# Altium integrated library Linear Technology PMIC-Switching Reg LT1074-LT8705.IntLib: 2252 symbols (part 77 of 124)
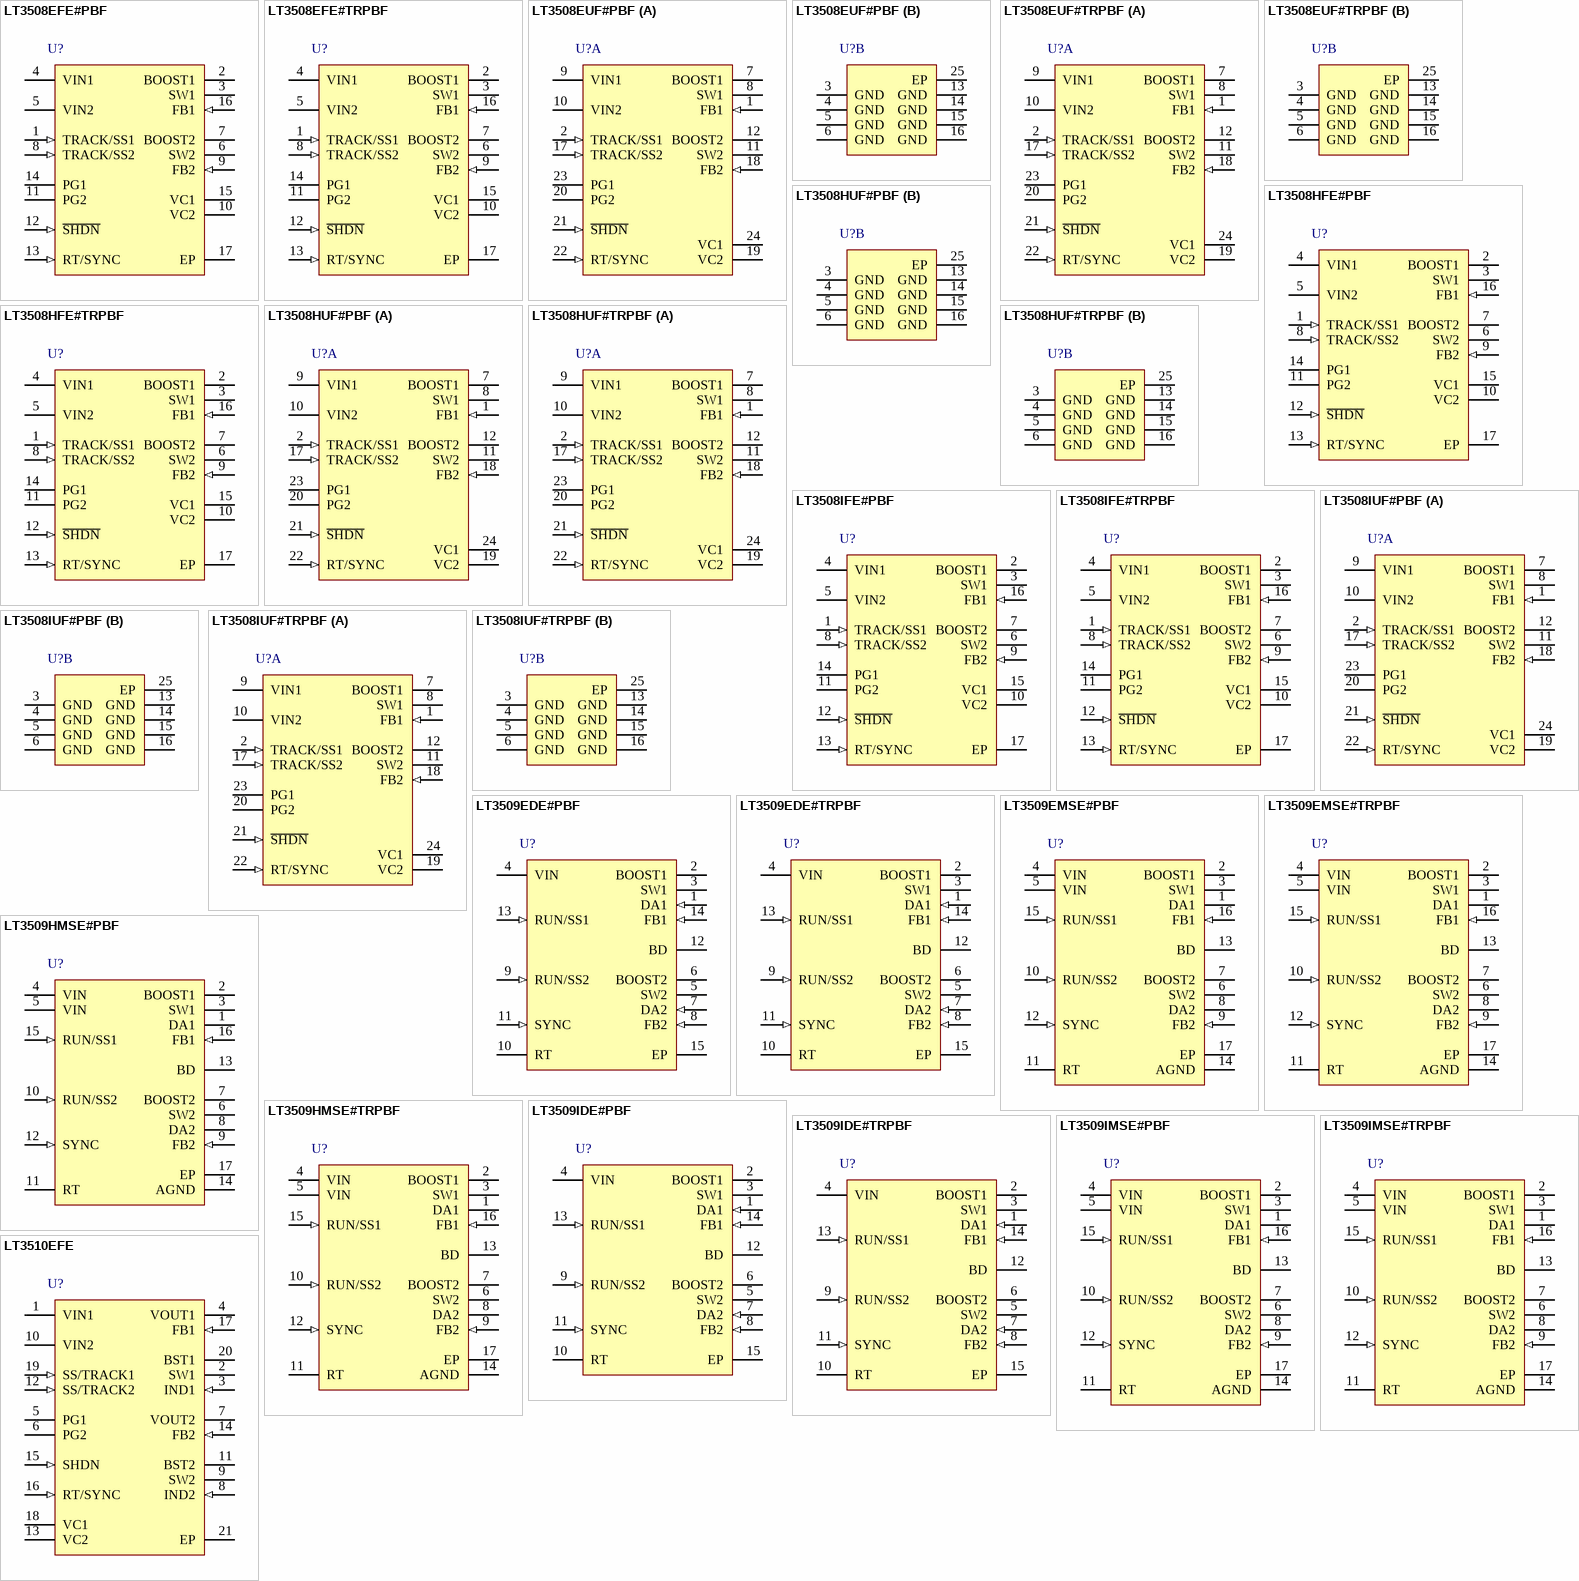
[diagram p147: symbols LT3508EFE#PBF to LT3510EFE]

## LT3508IUF#TRPBF
designator U?
Dual Monolithic 1.4 A Step-Down Switching Regulator, 24-pin QFN (UF24), -40 to 125 degC, Pb-Free, Tape and Reel; Manufacturer: Linear Technology; PartNumber: LT3508IUF#TRPBF; Number of Outputs: 2; PackageReference: UF24; PackageDescription: 24-Pin Plastic QFN, Body 4 x 4 mm, Pitch 0.5 mm; Supplier 1: Digi-Key; Supplier Part Number 1: LT3508IUF#TRPBF-ND; RoHS: TRUE
footprint LT-UF-24_N (QFN, 24-Leads, Body 4.1x4.1mm, Pitch 0.5mm, Thermal Pad 2.45x2.45mm, IPC Medium Density)
footprint LT-UF-24_L (QFN, 24-Leads, Body 4.1x4.1mm, Pitch 0.5mm, Thermal Pad 2.45x2.45mm, IPC High Density)
footprint LT-UF-24_M (QFN, 24-Leads, Body 4.1x4.1mm, Pitch 0.5mm, Thermal Pad 2.45x2.45mm, IPC Low Density)
part A pins: 1 FB1 (in) "The LT3508 regulates each feedback pin to 0.800V. Connect the feedback resistor divider taps to these pins.", 2 TRACK/SS1 (in) "The TRACK/SS pins are used to soft-start the two channels, to allow one channel to track the other output, or to allow both channels to track another output. For tracking, tie a resistor divider to this pin from the tracked (See Datasheet)", 7 BOOST1 "The BOOST pins are used to provide drive voltages, higher than the input voltage, to the internal NPN power switches. Tie through a diode to a 2.8V or higher supply, such as VOUT or VIN.", 8 SW1 (power) "The SW pins are the outputs of the internal power switches. Connect these pins to the inductors, catch diodes and boost capacitors.", 9 VIN1 (power) "The VIN1 pin supplies current to the LT3508 internal circuitry and to the internal power switch connected to SW1 and must be locally bypassed. VIN1 must be greater than 3.7V for channel 1 or channel 2 to operate. If VIN1 is (See Datasheet)", 10 VIN2 (power) "The VIN2 pin supplies current to the internal power switch connected to SW2 and must be locally bypassed. Connect this pin directly to VIN1 unless power for channel 2 is coming from a different source. VIN2 must be greater (See Datasheet)", 11 SW2 (power) "The SW pins are the outputs of the internal power switches. Connect these pins to the inductors, catch diodes and boost capacitors.", 12 BOOST2 "The BOOST pins are used to provide drive voltages, higher than the input voltage, to the internal NPN power switches. Tie through a diode to a 2.8V or higher supply, such as VOUT or VIN.", 17 TRACK/SS2 (in) "The TRACK/SS pins are used to soft-start the two channels, to allow one channel to track the other output, or to allow both channels to track another output. For tracking, tie a resistor divider to this pin from the tracked (See Datasheet)", 18 FB2 (in) "The LT3508 regulates each feedback pin to 0.800V. Connect the feedback resistor divider taps to these pins.", 19 VC2 "The VC pins are the outputs of the internal error amps. The voltages on these pins control the peak switch currents. These pins are normally used to compensate the control loops, but can also be used to override the loops. (See Datasheet)", 20 PG2 (oc) "The power good pins are the open-collector outputs of an internal comparator. PG remains low until the FB pin is within 10% of the final regulation voltage. As well as indicating output regulation, the PG pins can be used to (See Datasheet)", 21 ~{SHDN} (in) "The shutdown pin is used to put the LT3508 in shutdown mode. Pull the pin below 0.3V to shut down the LT3508. The 2.63V threshold can function as an accurate undervoltage lockout (UVLO), preventing the regulator from (See Datasheet)", 22 RT/SYNC (in) "The RT/SYNC pin is used to set the internal oscillator frequency. Tie a 33.2k resistor from RT/SYNC to GND for a 1MHz switching frequency. To synchronize the part to an external frequency, drive the RT/SYNC pin with a (See Datasheet)", 23 PG1 (oc) "The power good pins are the open-collector outputs of an internal comparator. PG remains low until the FB pin is within 10% of the final regulation voltage. As well as indicating output regulation, the PG pins can be used to (See Datasheet)", 24 VC1 "The VC pins are the outputs of the internal error amps. The voltages on these pins control the peak switch currents. These pins are normally used to compensate the control loops, but can also be used to override the loops. (See Datasheet)"
part B pins: 3 GND (power) "Tie the GND pins directly to the Exposed Pad and ground plane.", 4 GND (power) "Tie the GND pins directly to the Exposed Pad and ground plane.", 5 GND (power) "Tie the GND pins directly to the Exposed Pad and ground plane.", 6 GND (power) "Tie the GND pins directly to the Exposed Pad and ground plane.", 13 GND (power) "Tie the GND pins directly to the Exposed Pad and ground plane.", 14 GND (power) "Tie the GND pins directly to the Exposed Pad and ground plane.", 15 GND (power) "Tie the GND pins directly to the Exposed Pad and ground plane.", 16 GND (power) "Tie the GND pins directly to the Exposed Pad and ground plane.", 25 EP (power) "The exposed pad metal of the package provides both electrical contact to ground and good thermal contact to the printed circuit board. The exposed pad must be soldered to the circuit board for proper operation."

## LT3509EDE#PBF
designator U?
Dual 36 V, 700 mA Step-Down Regulator, 14-pin SON (DE-14), -40 to 125 degC, Pb-Free; Manufacturer: Linear Technology; PartNumber: LT3509EDE#PBF; Number of Outputs: 2; PackageReference: DE-14; PackageDescription: 14-Pin Plastic DFN, Body 4 x 3 mm, Pitch 0.5 mm; Supplier 1: Digi-Key; Supplier Part Number 1: LT3509EDE#PBF-ND; RoHS: TRUE
footprint LT-DE-14_V (SON, 14-Leads, Body 4x3mm, Pitch 0.5mm, Thermal Pad 3.3x1.7mm)
pins: 1 DA1 (in) "The DA pins are the anode connections for the catch diodes. These are connected internally to the exposed ground pad by current sensing resistors.", 2 BOOST1 "The BOOST pins are used to dynamically boost the power transistor base above VIN to minimize the voltage drop and power loss in the switch. These should be tied to the associated switch pins through the boost capacitors", 3 SW1 (power) "The SW pins are the internal power switch outputs. These should be connected to the associated inductors, catch diode cathodes, and the boost capacitors.", 4 VIN (power) "The VIN pins supply power to the internal power switches and control circuitry. In the MSE package the VIN pins must be tied together. The input capacitor should be placed as close as possible to the supply pins.", 5 SW2 (power) "The SW pins are the internal power switch outputs. These should be connected to the associated inductors, catch diode cathodes, and the boost capacitors.", 6 BOOST2 "The BOOST pins are used to dynamically boost the power transistor base above VIN to minimize the voltage drop and power loss in the switch. These should be tied to the associated switch pins through the boost capacitors", 7 DA2 (in) "The DA pins are the anode connections for the catch diodes. These are connected internally to the exposed ground pad by current sensing resistors.", 8 FB2 (in) "The FB pins are used to set the regulated output voltage relative to the internal reference. These pins should be connected to a resistor divider from the regulated output such that the FB pin is at 0.8V when the output is (See Datasheet)", 9 RUN/SS2 (in) "The RUN/SS pins enable the associated regulator channel. If both pins are pulled to ground, the device will shut-down to a low power state. In the range 0.8V to 2V, the regulators are enabled but the peak switch current and (See Datasheet)", 10 RT "The RT pin is used to set the internal oscillator frequency. A 40.2k resistor from RT to ground results in a nominal frequency of 1MHz.", 11 SYNC (in) "The SYNC pin allows the switching frequency to be synchronized to a external clock. Choose RT resistor to set a free-run frequency at least 12% less than the external clock frequency for correct operation", 12 BD (power) "The BD pin is common anode connection of the internal Schottky boost diodes. This provides the power for charging the BOOST capacitors. It should be locally bypassed for best performance.", 13 RUN/SS1 (in) "The RUN/SS pins enable the associated regulator channel. If both pins are pulled to ground, the device will shut-down to a low power state. In the range 0.8V to 2V, the regulators are enabled but the peak switch current and (See Datasheet)", 14 FB1 (in) "The FB pins are used to set the regulated output voltage relative to the internal reference. These pins should be connected to a resistor divider from the regulated output such that the FB pin is at 0.8V when the output is (See Datasheet)", 15 EP (power) "GND. This is the reference and supply ground for the regulator. The exposed pad must be soldered to the PCB and electrically connected to supply ground. Use a large ground plane and thermal vias to optimize thermal (See Datasheet)"

## LT3509EDE#TRPBF
designator U?
Dual 36 V, 700 mA Step-Down Regulator, 14-pin SON (DE-14), -40 to 125 degC, Pb-Free, Tape and Reel; Manufacturer: Linear Technology; PartNumber: LT3509EDE#TRPBF; Number of Outputs: 2; PackageReference: DE-14; PackageDescription: 14-Pin Plastic DFN, Body 4 x 3 mm, Pitch 0.5 mm; Supplier 1: Digi-Key; Supplier Part Number 1: LT3509EDE#TRPBF-ND; RoHS: TRUE
footprint LT-DE-14_V (SON, 14-Leads, Body 4x3mm, Pitch 0.5mm, Thermal Pad 3.3x1.7mm)
pins: 1 DA1 (in) "The DA pins are the anode connections for the catch diodes. These are connected internally to the exposed ground pad by current sensing resistors.", 2 BOOST1 "The BOOST pins are used to dynamically boost the power transistor base above VIN to minimize the voltage drop and power loss in the switch. These should be tied to the associated switch pins through the boost capacitors", 3 SW1 (power) "The SW pins are the internal power switch outputs. These should be connected to the associated inductors, catch diode cathodes, and the boost capacitors.", 4 VIN (power) "The VIN pins supply power to the internal power switches and control circuitry. In the MSE package the VIN pins must be tied together. The input capacitor should be placed as close as possible to the supply pins.", 5 SW2 (power) "The SW pins are the internal power switch outputs. These should be connected to the associated inductors, catch diode cathodes, and the boost capacitors.", 6 BOOST2 "The BOOST pins are used to dynamically boost the power transistor base above VIN to minimize the voltage drop and power loss in the switch. These should be tied to the associated switch pins through the boost capacitors", 7 DA2 (in) "The DA pins are the anode connections for the catch diodes. These are connected internally to the exposed ground pad by current sensing resistors.", 8 FB2 (in) "The FB pins are used to set the regulated output voltage relative to the internal reference. These pins should be connected to a resistor divider from the regulated output such that the FB pin is at 0.8V when the output is (See Datasheet)", 9 RUN/SS2 (in) "The RUN/SS pins enable the associated regulator channel. If both pins are pulled to ground, the device will shut-down to a low power state. In the range 0.8V to 2V, the regulators are enabled but the peak switch current and (See Datasheet)", 10 RT "The RT pin is used to set the internal oscillator frequency. A 40.2k resistor from RT to ground results in a nominal frequency of 1MHz.", 11 SYNC (in) "The SYNC pin allows the switching frequency to be synchronized to a external clock. Choose RT resistor to set a free-run frequency at least 12% less than the external clock frequency for correct operation", 12 BD (power) "The BD pin is common anode connection of the internal Schottky boost diodes. This provides the power for charging the BOOST capacitors. It should be locally bypassed for best performance.", 13 RUN/SS1 (in) "The RUN/SS pins enable the associated regulator channel. If both pins are pulled to ground, the device will shut-down to a low power state. In the range 0.8V to 2V, the regulators are enabled but the peak switch current and (See Datasheet)", 14 FB1 (in) "The FB pins are used to set the regulated output voltage relative to the internal reference. These pins should be connected to a resistor divider from the regulated output such that the FB pin is at 0.8V when the output is (See Datasheet)", 15 EP (power) "GND. This is the reference and supply ground for the regulator. The exposed pad must be soldered to the PCB and electrically connected to supply ground. Use a large ground plane and thermal vias to optimize thermal (See Datasheet)"

## LT3509EMSE#PBF
designator U?
Dual 36 V, 700 mA Step-Down Regulator, 16-pin SOP (MSE-16-EDP), -40 to 125 degC, Pb-Free; Manufacturer: Linear Technology; PartNumber: LT3509EMSE#PBF; Number of Outputs: 2; PackageReference: MSE-16; PackageDescription: 16-Pin Plastic MSOP, Exposed Die Pad, Body 4.039 x 3 mm, Pitch 0.5 mm; Supplier 1: Digi-Key; Supplier Part Number 1: LT3509EMSE#PBF-ND; RoHS: TRUE
footprint LT-MSE-16-EDP_N (SOP, 16-Leads, Body 4.1x3.1mm, Pitch 0.5mm, Thermal Pad 2.95x1.76mm, IPC Medium Density)
footprint LT-MSE-16-EDP_L (SOP, 16-Leads, Body 4.1x3.1mm, Pitch 0.5mm, Thermal Pad 2.95x1.76mm, IPC High Density)
footprint LT-MSE-16-EDP_M (SOP, 16-Leads, Body 4.1x3.1mm, Pitch 0.5mm, Thermal Pad 2.95x1.76mm, IPC Low Density)
pins: 1 DA1 "The DA pins are the anode connections for the catch diodes. These are connected internally to the exposed ground pad by current sensing resistors.", 2 BOOST1 "The BOOST pins are used to dynamically boost the power transistor base above VIN to minimize the voltage drop and power loss in the switch. These should be tied to the associated switch pins through the boost capacitors.", 3 SW1 (power) "The SW pins are the internal power switch outputs. These should be connected to the associated inductors, catch diode cathodes, and the boost capacitors.", 4 VIN (power) "The VIN pins supply power to the internal power switches and control circuitry. In the MSE package the VIN pins must be tied together. The input capacitor should be placed as close as possible to the supply pins.", 5 VIN (power) "The VIN pins supply power to the internal power switches and control circuitry. In the MSE package the VIN pins must be tied together. The input capacitor should be placed as close as possible to the supply pins.", 6 SW2 (power) "The SW pins are the internal power switch outputs. These should be connected to the associated inductors, catch diode cathodes, and the boost capacitors.", 7 BOOST2 "The BOOST pins are used to dynamically boost the power transistor base above VIN to minimize the voltage drop and power loss in the switch. These should be tied to the associated switch pins through the boost capacitors.", 8 DA2 "The DA pins are the anode connections for the catch diodes. These are connected internally to the exposed ground pad by current sensing resistors.", 9 FB2 (in) "The FB pins are used to set the regulated output voltage relative to the internal reference. These pins should be connected to a resistor divider from the regulated output such that the FB pin is at 0.8V when the output is (See Datasheet)", 10 RUN/SS2 (in) "The RUN/SS pins enable the associated regulator channel. If both pins are pulled to ground, the device will shut-down to a low power state. In the range 0.8V to 2V, the regulators are enabled but the peak switch current and (See Datasheet)", 11 RT "The RT pin is used to set the internal oscillator frequency. A 40.2k resistor from RT to ground results in a nominal frequency of 1MHz.", 12 SYNC (in) "The SYNC pin allows the switching frequency to be synchronized to a external clock. Choose RT resistor to set a free-run frequency at least 12% less than the external clock frequency for correct operation.", 13 BD (power) "The BD pin is common anode connection of the internal Schottky boost diodes. This provides the power for charging the BOOST capacitors. It should be locally bypassed for best performance.", 14 AGND (power) "This is the connected to the ground connection of the chip and may be used as a separate return for the low current control side components. It should not be used as the only ground connection or as a connection return for (See Datasheet)", 15 RUN/SS1 (in) "The RUN/SS pins enable the associated regulator channel. If both pins are pulled to ground, the device will shut-down to a low power state. In the range 0.8V to 2V, the regulators are enabled but the peak switch current and (See Datasheet)", 16 FB1 (in) "The FB pins are used to set the regulated output voltage relative to the internal reference. These pins should be connected to a resistor divider from the regulated output such that the FB pin is at 0.8V when the output is (See Datasheet)", 17 EP (power) "GND. This is the reference and supply ground for the regulator. The exposed pad must be soldered to the PCB and electrically connected to supply ground. Use a large ground plane and thermal vias to optimize thermal (See Datasheet)"

## LT3509EMSE#TRPBF
designator U?
Dual 36 V, 700 mA Step-Down Regulator, 16-pin SOP (MSE-16-EDP), -40 to 125 degC, Pb-Free, Tape and Reel; Manufacturer: Linear Technology; PartNumber: LT3509EMSE#TRPBF; Number of Outputs: 2; PackageReference: MSE-16; PackageDescription: 16-Pin Plastic MSOP, Exposed Die Pad, Body 4.039 x 3 mm, Pitch 0.5 mm; Supplier 1: Digi-Key; Supplier Part Number 1: LT3509EMSE#TRPBF-ND; RoHS: TRUE
footprint LT-MSE-16-EDP_N (SOP, 16-Leads, Body 4.1x3.1mm, Pitch 0.5mm, Thermal Pad 2.95x1.76mm, IPC Medium Density)
footprint LT-MSE-16-EDP_L (SOP, 16-Leads, Body 4.1x3.1mm, Pitch 0.5mm, Thermal Pad 2.95x1.76mm, IPC High Density)
footprint LT-MSE-16-EDP_M (SOP, 16-Leads, Body 4.1x3.1mm, Pitch 0.5mm, Thermal Pad 2.95x1.76mm, IPC Low Density)
pins: 1 DA1 "The DA pins are the anode connections for the catch diodes. These are connected internally to the exposed ground pad by current sensing resistors.", 2 BOOST1 "The BOOST pins are used to dynamically boost the power transistor base above VIN to minimize the voltage drop and power loss in the switch. These should be tied to the associated switch pins through the boost capacitors.", 3 SW1 (power) "The SW pins are the internal power switch outputs. These should be connected to the associated inductors, catch diode cathodes, and the boost capacitors.", 4 VIN (power) "The VIN pins supply power to the internal power switches and control circuitry. In the MSE package the VIN pins must be tied together. The input capacitor should be placed as close as possible to the supply pins.", 5 VIN (power) "The VIN pins supply power to the internal power switches and control circuitry. In the MSE package the VIN pins must be tied together. The input capacitor should be placed as close as possible to the supply pins.", 6 SW2 (power) "The SW pins are the internal power switch outputs. These should be connected to the associated inductors, catch diode cathodes, and the boost capacitors.", 7 BOOST2 "The BOOST pins are used to dynamically boost the power transistor base above VIN to minimize the voltage drop and power loss in the switch. These should be tied to the associated switch pins through the boost capacitors.", 8 DA2 "The DA pins are the anode connections for the catch diodes. These are connected internally to the exposed ground pad by current sensing resistors.", 9 FB2 (in) "The FB pins are used to set the regulated output voltage relative to the internal reference. These pins should be connected to a resistor divider from the regulated output such that the FB pin is at 0.8V when the output is (See Datasheet)", 10 RUN/SS2 (in) "The RUN/SS pins enable the associated regulator channel. If both pins are pulled to ground, the device will shut-down to a low power state. In the range 0.8V to 2V, the regulators are enabled but the peak switch current and (See Datasheet)", 11 RT "The RT pin is used to set the internal oscillator frequency. A 40.2k resistor from RT to ground results in a nominal frequency of 1MHz.", 12 SYNC (in) "The SYNC pin allows the switching frequency to be synchronized to a external clock. Choose RT resistor to set a free-run frequency at least 12% less than the external clock frequency for correct operation.", 13 BD (power) "The BD pin is common anode connection of the internal Schottky boost diodes. This provides the power for charging the BOOST capacitors. It should be locally bypassed for best performance.", 14 AGND (power) "This is the connected to the ground connection of the chip and may be used as a separate return for the low current control side components. It should not be used as the only ground connection or as a connection return for (See Datasheet)", 15 RUN/SS1 (in) "The RUN/SS pins enable the associated regulator channel. If both pins are pulled to ground, the device will shut-down to a low power state. In the range 0.8V to 2V, the regulators are enabled but the peak switch current and (See Datasheet)", 16 FB1 (in) "The FB pins are used to set the regulated output voltage relative to the internal reference. These pins should be connected to a resistor divider from the regulated output such that the FB pin is at 0.8V when the output is (See Datasheet)", 17 EP (power) "GND. This is the reference and supply ground for the regulator. The exposed pad must be soldered to the PCB and electrically connected to supply ground. Use a large ground plane and thermal vias to optimize thermal (See Datasheet)"

## LT3509HMSE#PBF
designator U?
Dual 36 V, 700 mA Step-Down Regulator, 16-pin SOP (MSE-16-EDP), -40 to 150 degC, Pb-Free; Manufacturer: Linear Technology; PartNumber: LT3509HMSE#PBF; Number of Outputs: 2; PackageReference: MSE-16; PackageDescription: 16-Pin Plastic MSOP, Exposed Die Pad, Body 4.039 x 3 mm, Pitch 0.5 mm; Supplier 1: Digi-Key; Supplier Part Number 1: LT3509HMSE#PBF-ND; RoHS: TRUE
footprint LT-MSE-16-EDP_N (SOP, 16-Leads, Body 4.1x3.1mm, Pitch 0.5mm, Thermal Pad 2.95x1.76mm, IPC Medium Density)
footprint LT-MSE-16-EDP_L (SOP, 16-Leads, Body 4.1x3.1mm, Pitch 0.5mm, Thermal Pad 2.95x1.76mm, IPC High Density)
footprint LT-MSE-16-EDP_M (SOP, 16-Leads, Body 4.1x3.1mm, Pitch 0.5mm, Thermal Pad 2.95x1.76mm, IPC Low Density)
pins: 1 DA1 "The DA pins are the anode connections for the catch diodes. These are connected internally to the exposed ground pad by current sensing resistors.", 2 BOOST1 "The BOOST pins are used to dynamically boost the power transistor base above VIN to minimize the voltage drop and power loss in the switch. These should be tied to the associated switch pins through the boost capacitors.", 3 SW1 (power) "The SW pins are the internal power switch outputs. These should be connected to the associated inductors, catch diode cathodes, and the boost capacitors.", 4 VIN (power) "The VIN pins supply power to the internal power switches and control circuitry. In the MSE package the VIN pins must be tied together. The input capacitor should be placed as close as possible to the supply pins.", 5 VIN (power) "The VIN pins supply power to the internal power switches and control circuitry. In the MSE package the VIN pins must be tied together. The input capacitor should be placed as close as possible to the supply pins.", 6 SW2 (power) "The SW pins are the internal power switch outputs. These should be connected to the associated inductors, catch diode cathodes, and the boost capacitors.", 7 BOOST2 "The BOOST pins are used to dynamically boost the power transistor base above VIN to minimize the voltage drop and power loss in the switch. These should be tied to the associated switch pins through the boost capacitors.", 8 DA2 "The DA pins are the anode connections for the catch diodes. These are connected internally to the exposed ground pad by current sensing resistors.", 9 FB2 (in) "The FB pins are used to set the regulated output voltage relative to the internal reference. These pins should be connected to a resistor divider from the regulated output such that the FB pin is at 0.8V when the output is (See Datasheet)", 10 RUN/SS2 (in) "The RUN/SS pins enable the associated regulator channel. If both pins are pulled to ground, the device will shut-down to a low power state. In the range 0.8V to 2V, the regulators are enabled but the peak switch current and (See Datasheet)", 11 RT "The RT pin is used to set the internal oscillator frequency. A 40.2k resistor from RT to ground results in a nominal frequency of 1MHz.", 12 SYNC (in) "The SYNC pin allows the switching frequency to be synchronized to a external clock. Choose RT resistor to set a free-run frequency at least 12% less than the external clock frequency for correct operation.", 13 BD (power) "The BD pin is common anode connection of the internal Schottky boost diodes. This provides the power for charging the BOOST capacitors. It should be locally bypassed for best performance.", 14 AGND (power) "This is the connected to the ground connection of the chip and may be used as a separate return for the low current control side components. It should not be used as the only ground connection or as a connection return for (See Datasheet)", 15 RUN/SS1 (in) "The RUN/SS pins enable the associated regulator channel. If both pins are pulled to ground, the device will shut-down to a low power state. In the range 0.8V to 2V, the regulators are enabled but the peak switch current and (See Datasheet)", 16 FB1 (in) "The FB pins are used to set the regulated output voltage relative to the internal reference. These pins should be connected to a resistor divider from the regulated output such that the FB pin is at 0.8V when the output is (See Datasheet)", 17 EP (power) "GND. This is the reference and supply ground for the regulator. The exposed pad must be soldered to the PCB and electrically connected to supply ground. Use a large ground plane and thermal vias to optimize thermal (See Datasheet)"

## LT3509HMSE#TRPBF
designator U?
Dual 36 V, 700 mA Step-Down Regulator, 16-pin SOP (MSE-16-EDP), -40 to 150 degC, Pb-Free, Tape and Reel; Manufacturer: Linear Technology; PartNumber: LT3509HMSE#TRPBF; Number of Outputs: 2; PackageReference: MSE-16; PackageDescription: 16-Pin Plastic MSOP, Exposed Die Pad, Body 4.039 x 3 mm, Pitch 0.5 mm; Supplier 1: Digi-Key; Supplier Part Number 1: LT3509HMSE#TRPBF-ND; RoHS: TRUE
footprint LT-MSE-16-EDP_N (SOP, 16-Leads, Body 4.1x3.1mm, Pitch 0.5mm, Thermal Pad 2.95x1.76mm, IPC Medium Density)
footprint LT-MSE-16-EDP_L (SOP, 16-Leads, Body 4.1x3.1mm, Pitch 0.5mm, Thermal Pad 2.95x1.76mm, IPC High Density)
footprint LT-MSE-16-EDP_M (SOP, 16-Leads, Body 4.1x3.1mm, Pitch 0.5mm, Thermal Pad 2.95x1.76mm, IPC Low Density)
pins: 1 DA1 "The DA pins are the anode connections for the catch diodes. These are connected internally to the exposed ground pad by current sensing resistors.", 2 BOOST1 "The BOOST pins are used to dynamically boost the power transistor base above VIN to minimize the voltage drop and power loss in the switch. These should be tied to the associated switch pins through the boost capacitors.", 3 SW1 (power) "The SW pins are the internal power switch outputs. These should be connected to the associated inductors, catch diode cathodes, and the boost capacitors.", 4 VIN (power) "The VIN pins supply power to the internal power switches and control circuitry. In the MSE package the VIN pins must be tied together. The input capacitor should be placed as close as possible to the supply pins.", 5 VIN (power) "The VIN pins supply power to the internal power switches and control circuitry. In the MSE package the VIN pins must be tied together. The input capacitor should be placed as close as possible to the supply pins.", 6 SW2 (power) "The SW pins are the internal power switch outputs. These should be connected to the associated inductors, catch diode cathodes, and the boost capacitors.", 7 BOOST2 "The BOOST pins are used to dynamically boost the power transistor base above VIN to minimize the voltage drop and power loss in the switch. These should be tied to the associated switch pins through the boost capacitors.", 8 DA2 "The DA pins are the anode connections for the catch diodes. These are connected internally to the exposed ground pad by current sensing resistors.", 9 FB2 (in) "The FB pins are used to set the regulated output voltage relative to the internal reference. These pins should be connected to a resistor divider from the regulated output such that the FB pin is at 0.8V when the output is (See Datasheet)", 10 RUN/SS2 (in) "The RUN/SS pins enable the associated regulator channel. If both pins are pulled to ground, the device will shut-down to a low power state. In the range 0.8V to 2V, the regulators are enabled but the peak switch current and (See Datasheet)", 11 RT "The RT pin is used to set the internal oscillator frequency. A 40.2k resistor from RT to ground results in a nominal frequency of 1MHz.", 12 SYNC (in) "The SYNC pin allows the switching frequency to be synchronized to a external clock. Choose RT resistor to set a free-run frequency at least 12% less than the external clock frequency for correct operation.", 13 BD (power) "The BD pin is common anode connection of the internal Schottky boost diodes. This provides the power for charging the BOOST capacitors. It should be locally bypassed for best performance.", 14 AGND (power) "This is the connected to the ground connection of the chip and may be used as a separate return for the low current control side components. It should not be used as the only ground connection or as a connection return for (See Datasheet)", 15 RUN/SS1 (in) "The RUN/SS pins enable the associated regulator channel. If both pins are pulled to ground, the device will shut-down to a low power state. In the range 0.8V to 2V, the regulators are enabled but the peak switch current and (See Datasheet)", 16 FB1 (in) "The FB pins are used to set the regulated output voltage relative to the internal reference. These pins should be connected to a resistor divider from the regulated output such that the FB pin is at 0.8V when the output is (See Datasheet)", 17 EP (power) "GND. This is the reference and supply ground for the regulator. The exposed pad must be soldered to the PCB and electrically connected to supply ground. Use a large ground plane and thermal vias to optimize thermal (See Datasheet)"

## LT3509IDE#PBF
designator U?
Dual 36 V, 700 mA Step-Down Regulator, 14-pin SON (DE-14), -40 to 125 degC, Pb-Free; Manufacturer: Linear Technology; PartNumber: LT3509IDE#PBF; Number of Outputs: 2; PackageReference: DE-14; PackageDescription: 14-Pin Plastic DFN, Body 4 x 3 mm, Pitch 0.5 mm; Supplier 1: Digi-Key; Supplier Part Number 1: LT3509IDE#PBF-ND; RoHS: TRUE
footprint LT-DE-14_V (SON, 14-Leads, Body 4x3mm, Pitch 0.5mm, Thermal Pad 3.3x1.7mm)
pins: 1 DA1 (in) "The DA pins are the anode connections for the catch diodes. These are connected internally to the exposed ground pad by current sensing resistors.", 2 BOOST1 "The BOOST pins are used to dynamically boost the power transistor base above VIN to minimize the voltage drop and power loss in the switch. These should be tied to the associated switch pins through the boost capacitors", 3 SW1 (power) "The SW pins are the internal power switch outputs. These should be connected to the associated inductors, catch diode cathodes, and the boost capacitors.", 4 VIN (power) "The VIN pins supply power to the internal power switches and control circuitry. In the MSE package the VIN pins must be tied together. The input capacitor should be placed as close as possible to the supply pins.", 5 SW2 (power) "The SW pins are the internal power switch outputs. These should be connected to the associated inductors, catch diode cathodes, and the boost capacitors.", 6 BOOST2 "The BOOST pins are used to dynamically boost the power transistor base above VIN to minimize the voltage drop and power loss in the switch. These should be tied to the associated switch pins through the boost capacitors", 7 DA2 (in) "The DA pins are the anode connections for the catch diodes. These are connected internally to the exposed ground pad by current sensing resistors.", 8 FB2 (in) "The FB pins are used to set the regulated output voltage relative to the internal reference. These pins should be connected to a resistor divider from the regulated output such that the FB pin is at 0.8V when the output is (See Datasheet)", 9 RUN/SS2 (in) "The RUN/SS pins enable the associated regulator channel. If both pins are pulled to ground, the device will shut-down to a low power state. In the range 0.8V to 2V, the regulators are enabled but the peak switch current and (See Datasheet)", 10 RT "The RT pin is used to set the internal oscillator frequency. A 40.2k resistor from RT to ground results in a nominal frequency of 1MHz.", 11 SYNC (in) "The SYNC pin allows the switching frequency to be synchronized to a external clock. Choose RT resistor to set a free-run frequency at least 12% less than the external clock frequency for correct operation", 12 BD (power) "The BD pin is common anode connection of the internal Schottky boost diodes. This provides the power for charging the BOOST capacitors. It should be locally bypassed for best performance.", 13 RUN/SS1 (in) "The RUN/SS pins enable the associated regulator channel. If both pins are pulled to ground, the device will shut-down to a low power state. In the range 0.8V to 2V, the regulators are enabled but the peak switch current and (See Datasheet)", 14 FB1 (in) "The FB pins are used to set the regulated output voltage relative to the internal reference. These pins should be connected to a resistor divider from the regulated output such that the FB pin is at 0.8V when the output is (See Datasheet)", 15 EP (power) "GND. This is the reference and supply ground for the regulator. The exposed pad must be soldered to the PCB and electrically connected to supply ground. Use a large ground plane and thermal vias to optimize thermal (See Datasheet)"

## LT3509IDE#TRPBF
designator U?
Dual 36 V, 700 mA Step-Down Regulator, 14-pin SON (DE-14), -40 to 125 degC, Pb-Free, Tape and Reel; Manufacturer: Linear Technology; PartNumber: LT3509IDE#TRPBF; Number of Outputs: 2; PackageReference: DE-14; PackageDescription: 14-Pin Plastic DFN, Body 4 x 3 mm, Pitch 0.5 mm; Supplier 1: Digi-Key; Supplier Part Number 1: LT3509IDE#TRPBF-ND; RoHS: TRUE
footprint LT-DE-14_V (SON, 14-Leads, Body 4x3mm, Pitch 0.5mm, Thermal Pad 3.3x1.7mm)
pins: 1 DA1 (in) "The DA pins are the anode connections for the catch diodes. These are connected internally to the exposed ground pad by current sensing resistors.", 2 BOOST1 "The BOOST pins are used to dynamically boost the power transistor base above VIN to minimize the voltage drop and power loss in the switch. These should be tied to the associated switch pins through the boost capacitors", 3 SW1 (power) "The SW pins are the internal power switch outputs. These should be connected to the associated inductors, catch diode cathodes, and the boost capacitors.", 4 VIN (power) "The VIN pins supply power to the internal power switches and control circuitry. In the MSE package the VIN pins must be tied together. The input capacitor should be placed as close as possible to the supply pins.", 5 SW2 (power) "The SW pins are the internal power switch outputs. These should be connected to the associated inductors, catch diode cathodes, and the boost capacitors.", 6 BOOST2 "The BOOST pins are used to dynamically boost the power transistor base above VIN to minimize the voltage drop and power loss in the switch. These should be tied to the associated switch pins through the boost capacitors", 7 DA2 (in) "The DA pins are the anode connections for the catch diodes. These are connected internally to the exposed ground pad by current sensing resistors.", 8 FB2 (in) "The FB pins are used to set the regulated output voltage relative to the internal reference. These pins should be connected to a resistor divider from the regulated output such that the FB pin is at 0.8V when the output is (See Datasheet)", 9 RUN/SS2 (in) "The RUN/SS pins enable the associated regulator channel. If both pins are pulled to ground, the device will shut-down to a low power state. In the range 0.8V to 2V, the regulators are enabled but the peak switch current and (See Datasheet)", 10 RT "The RT pin is used to set the internal oscillator frequency. A 40.2k resistor from RT to ground results in a nominal frequency of 1MHz.", 11 SYNC (in) "The SYNC pin allows the switching frequency to be synchronized to a external clock. Choose RT resistor to set a free-run frequency at least 12% less than the external clock frequency for correct operation", 12 BD (power) "The BD pin is common anode connection of the internal Schottky boost diodes. This provides the power for charging the BOOST capacitors. It should be locally bypassed for best performance.", 13 RUN/SS1 (in) "The RUN/SS pins enable the associated regulator channel. If both pins are pulled to ground, the device will shut-down to a low power state. In the range 0.8V to 2V, the regulators are enabled but the peak switch current and (See Datasheet)", 14 FB1 (in) "The FB pins are used to set the regulated output voltage relative to the internal reference. These pins should be connected to a resistor divider from the regulated output such that the FB pin is at 0.8V when the output is (See Datasheet)", 15 EP (power) "GND. This is the reference and supply ground for the regulator. The exposed pad must be soldered to the PCB and electrically connected to supply ground. Use a large ground plane and thermal vias to optimize thermal (See Datasheet)"

## LT3509IMSE#PBF
designator U?
Dual 36 V, 700 mA Step-Down Regulator, 16-pin SOP (MSE-16-EDP), -40 to 125 degC, Pb-Free; Manufacturer: Linear Technology; PartNumber: LT3509IMSE#PBF; Number of Outputs: 2; PackageReference: MSE-16; PackageDescription: 16-Pin Plastic MSOP, Exposed Die Pad, Body 4.039 x 3 mm, Pitch 0.5 mm; Supplier 1: Digi-Key; Supplier Part Number 1: LT3509IMSE#PBF-ND; RoHS: TRUE
footprint LT-MSE-16-EDP_N (SOP, 16-Leads, Body 4.1x3.1mm, Pitch 0.5mm, Thermal Pad 2.95x1.76mm, IPC Medium Density)
footprint LT-MSE-16-EDP_L (SOP, 16-Leads, Body 4.1x3.1mm, Pitch 0.5mm, Thermal Pad 2.95x1.76mm, IPC High Density)
footprint LT-MSE-16-EDP_M (SOP, 16-Leads, Body 4.1x3.1mm, Pitch 0.5mm, Thermal Pad 2.95x1.76mm, IPC Low Density)
pins: 1 DA1 "The DA pins are the anode connections for the catch diodes. These are connected internally to the exposed ground pad by current sensing resistors.", 2 BOOST1 "The BOOST pins are used to dynamically boost the power transistor base above VIN to minimize the voltage drop and power loss in the switch. These should be tied to the associated switch pins through the boost capacitors.", 3 SW1 (power) "The SW pins are the internal power switch outputs. These should be connected to the associated inductors, catch diode cathodes, and the boost capacitors.", 4 VIN (power) "The VIN pins supply power to the internal power switches and control circuitry. In the MSE package the VIN pins must be tied together. The input capacitor should be placed as close as possible to the supply pins.", 5 VIN (power) "The VIN pins supply power to the internal power switches and control circuitry. In the MSE package the VIN pins must be tied together. The input capacitor should be placed as close as possible to the supply pins.", 6 SW2 (power) "The SW pins are the internal power switch outputs. These should be connected to the associated inductors, catch diode cathodes, and the boost capacitors.", 7 BOOST2 "The BOOST pins are used to dynamically boost the power transistor base above VIN to minimize the voltage drop and power loss in the switch. These should be tied to the associated switch pins through the boost capacitors.", 8 DA2 "The DA pins are the anode connections for the catch diodes. These are connected internally to the exposed ground pad by current sensing resistors.", 9 FB2 (in) "The FB pins are used to set the regulated output voltage relative to the internal reference. These pins should be connected to a resistor divider from the regulated output such that the FB pin is at 0.8V when the output is (See Datasheet)", 10 RUN/SS2 (in) "The RUN/SS pins enable the associated regulator channel. If both pins are pulled to ground, the device will shut-down to a low power state. In the range 0.8V to 2V, the regulators are enabled but the peak switch current and (See Datasheet)", 11 RT "The RT pin is used to set the internal oscillator frequency. A 40.2k resistor from RT to ground results in a nominal frequency of 1MHz.", 12 SYNC (in) "The SYNC pin allows the switching frequency to be synchronized to a external clock. Choose RT resistor to set a free-run frequency at least 12% less than the external clock frequency for correct operation.", 13 BD (power) "The BD pin is common anode connection of the internal Schottky boost diodes. This provides the power for charging the BOOST capacitors. It should be locally bypassed for best performance.", 14 AGND (power) "This is the connected to the ground connection of the chip and may be used as a separate return for the low current control side components. It should not be used as the only ground connection or as a connection return for (See Datasheet)", 15 RUN/SS1 (in) "The RUN/SS pins enable the associated regulator channel. If both pins are pulled to ground, the device will shut-down to a low power state. In the range 0.8V to 2V, the regulators are enabled but the peak switch current and (See Datasheet)", 16 FB1 (in) "The FB pins are used to set the regulated output voltage relative to the internal reference. These pins should be connected to a resistor divider from the regulated output such that the FB pin is at 0.8V when the output is (See Datasheet)", 17 EP (power) "GND. This is the reference and supply ground for the regulator. The exposed pad must be soldered to the PCB and electrically connected to supply ground. Use a large ground plane and thermal vias to optimize thermal (See Datasheet)"

## LT3509IMSE#TRPBF
designator U?
Dual 36 V, 700 mA Step-Down Regulator, 16-pin SOP (MSE-16-EDP), -40 to 125 degC, Pb-Free, Tape and Reel; Manufacturer: Linear Technology; PartNumber: LT3509IMSE#TRPBF; Number of Outputs: 2; PackageReference: MSE-16; PackageDescription: 16-Pin Plastic MSOP, Exposed Die Pad, Body 4.039 x 3 mm, Pitch 0.5 mm; Supplier 1: Digi-Key; Supplier Part Number 1: LT3509IMSE#TRPBF-ND; RoHS: TRUE
footprint LT-MSE-16-EDP_N (SOP, 16-Leads, Body 4.1x3.1mm, Pitch 0.5mm, Thermal Pad 2.95x1.76mm, IPC Medium Density)
footprint LT-MSE-16-EDP_L (SOP, 16-Leads, Body 4.1x3.1mm, Pitch 0.5mm, Thermal Pad 2.95x1.76mm, IPC High Density)
footprint LT-MSE-16-EDP_M (SOP, 16-Leads, Body 4.1x3.1mm, Pitch 0.5mm, Thermal Pad 2.95x1.76mm, IPC Low Density)
pins: 1 DA1 "The DA pins are the anode connections for the catch diodes. These are connected internally to the exposed ground pad by current sensing resistors.", 2 BOOST1 "The BOOST pins are used to dynamically boost the power transistor base above VIN to minimize the voltage drop and power loss in the switch. These should be tied to the associated switch pins through the boost capacitors.", 3 SW1 (power) "The SW pins are the internal power switch outputs. These should be connected to the associated inductors, catch diode cathodes, and the boost capacitors.", 4 VIN (power) "The VIN pins supply power to the internal power switches and control circuitry. In the MSE package the VIN pins must be tied together. The input capacitor should be placed as close as possible to the supply pins.", 5 VIN (power) "The VIN pins supply power to the internal power switches and control circuitry. In the MSE package the VIN pins must be tied together. The input capacitor should be placed as close as possible to the supply pins.", 6 SW2 (power) "The SW pins are the internal power switch outputs. These should be connected to the associated inductors, catch diode cathodes, and the boost capacitors.", 7 BOOST2 "The BOOST pins are used to dynamically boost the power transistor base above VIN to minimize the voltage drop and power loss in the switch. These should be tied to the associated switch pins through the boost capacitors.", 8 DA2 "The DA pins are the anode connections for the catch diodes. These are connected internally to the exposed ground pad by current sensing resistors.", 9 FB2 (in) "The FB pins are used to set the regulated output voltage relative to the internal reference. These pins should be connected to a resistor divider from the regulated output such that the FB pin is at 0.8V when the output is (See Datasheet)", 10 RUN/SS2 (in) "The RUN/SS pins enable the associated regulator channel. If both pins are pulled to ground, the device will shut-down to a low power state. In the range 0.8V to 2V, the regulators are enabled but the peak switch current and (See Datasheet)", 11 RT "The RT pin is used to set the internal oscillator frequency. A 40.2k resistor from RT to ground results in a nominal frequency of 1MHz.", 12 SYNC (in) "The SYNC pin allows the switching frequency to be synchronized to a external clock. Choose RT resistor to set a free-run frequency at least 12% less than the external clock frequency for correct operation.", 13 BD (power) "The BD pin is common anode connection of the internal Schottky boost diodes. This provides the power for charging the BOOST capacitors. It should be locally bypassed for best performance.", 14 AGND (power) "This is the connected to the ground connection of the chip and may be used as a separate return for the low current control side components. It should not be used as the only ground connection or as a connection return for (See Datasheet)", 15 RUN/SS1 (in) "The RUN/SS pins enable the associated regulator channel. If both pins are pulled to ground, the device will shut-down to a low power state. In the range 0.8V to 2V, the regulators are enabled but the peak switch current and (See Datasheet)", 16 FB1 (in) "The FB pins are used to set the regulated output voltage relative to the internal reference. These pins should be connected to a resistor divider from the regulated output such that the FB pin is at 0.8V when the output is (See Datasheet)", 17 EP (power) "GND. This is the reference and supply ground for the regulator. The exposed pad must be soldered to the PCB and electrically connected to supply ground. Use a large ground plane and thermal vias to optimize thermal (See Datasheet)"